# EAGLE library part RASPBERRY-PI (library BEEP)
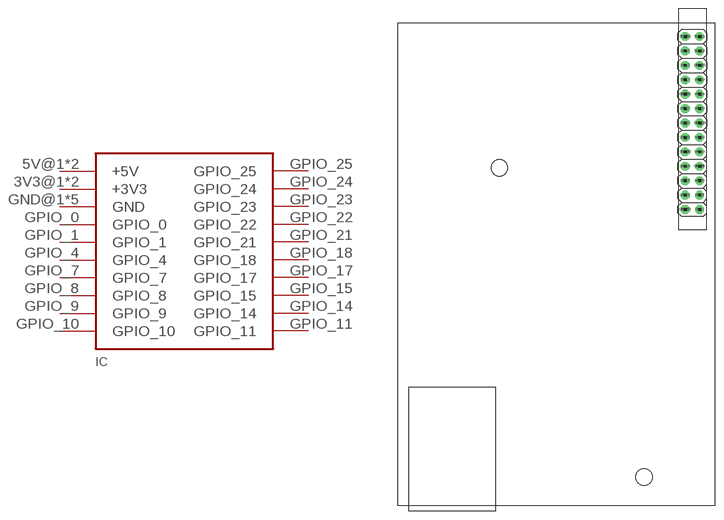
[diagram p10: symbol with the pads of RASPERRRY-PI; footprint RASPERRRY-PI]

Designator prefix IC

## RASPBERRY-PI  [RASPERRRY-PI]
3V3@1  +3V3  pwr
3V3@2  +3V3  pwr
5V@1  +5V  pwr
5V@2  +5V  pwr
GND@1  GND  pwr
GND@2  GND  pwr
GND@3  GND  pwr
GND@4  GND  pwr
GND@5  GND  pwr
GPIO_0  GPIO_0
GPIO_1  GPIO_1
GPIO_4  GPIO_4
GPIO_7  GPIO_7
GPIO_8  GPIO_8
GPIO_9  GPIO_9
GPIO_10  GPIO_10
GPIO_11  GPIO_11
GPIO_14  GPIO_14
GPIO_15  GPIO_15
GPIO_17  GPIO_17
GPIO_18  GPIO_18
GPIO_21  GPIO_21
GPIO_22  GPIO_22
GPIO_23  GPIO_23
GPIO_24  GPIO_24
GPIO_25  GPIO_25

## Footprint RASPERRRY-PI (pad centres in mm)
drill 1.016 octagon: 3V3@1 50.736,82.608; 3V3@2 50.736,62.288; 5V@1 53.276,82.608; 5V@2 53.276,80.068; GND@1 50.736,72.448; GND@2 50.736,52.128; GND@3 53.276,77.528; GND@4 53.276,67.368; GND@5 53.276,59.748; GPIO_0 50.736,80.068; GPIO_1 50.736,77.528; GPIO_4 50.736,74.988; GPIO_7 53.276,52.128; GPIO_8 53.276,54.668; GPIO_9 50.736,57.208; GPIO_10 50.736,59.748; GPIO_11 50.736,54.668; GPIO_14 53.276,74.988; GPIO_15 53.276,72.448; GPIO_17 50.736,69.908; GPIO_18 53.276,69.908; GPIO_21 50.736,67.368; GPIO_22 50.736,64.828; GPIO_23 53.276,64.828; GPIO_24 53.276,62.288; GPIO_25 53.276,57.208